# EAGLE library part SN65HVD75 (library imu_junction)
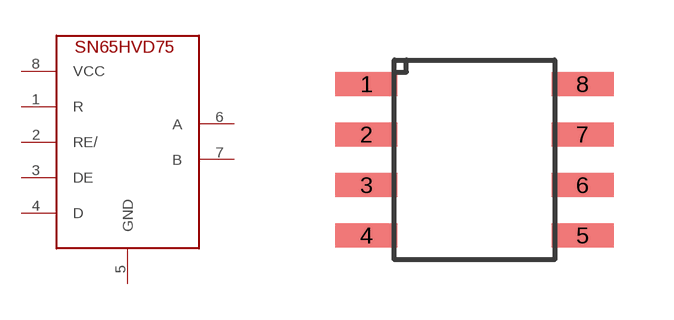
[diagram p3: symbol with the pads of SOIC8; footprint SOIC8]

Designator prefix -

## SN65HVD75SOIC8  [SOIC8]
1  R
2  RE/
3  DE
4  D
5  GND
6  A
7  B
8  VCC

## Footprint SOIC8 (pad centres in mm)
smd 1.55 x 0.6: 1 -2.7,1.895; 2 -2.7,0.635; 3 -2.7,-0.635; 4 -2.7,-1.895; 5 2.7,-1.895; 6 2.7,-0.635; 7 2.7,0.635; 8 2.7,1.895